# EAGLE library part DIN-6P (library DIN-Sockets)
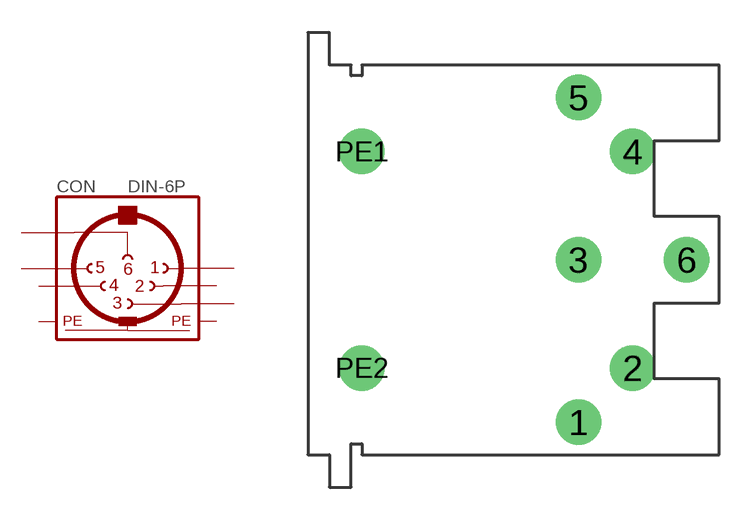
[diagram p0: symbol with the pads of 6P; footprint 6P]

Designator prefix CON

## DIN-6P (OC_REICHELT: LUM 010599 06; VALUE: DIN-6P; VENDOR: Lumberg)  [6P]
1  1  pas
2  2  pas
3  3  pas
4  4  pas
5  5  pas
6  6  pas
PE1  PE1  pwr
PE2  PE2  pwr

## Footprint 6P (pad centres in mm)
drill 1.4: 1 0,-7.5; 2 2.5,-5; 3 0,0; 4 2.5,5; 5 0,7.5; 6 5,0; PE1 -10,5; PE2 -10,-5